# Altium footprint library PBL - Special.PcbLib: 21 footprints (part 2 of 2)
Each footprint in its own frame and in the unit in brackets; x right, y up, seen from the top. Pads: shape width x height; smd on the part's side, far side on the other; paste and mask are expansions set on the pad; w line width, h text height; cw(c..) or ccw(c..) is an arc to the next point about the centre after c.
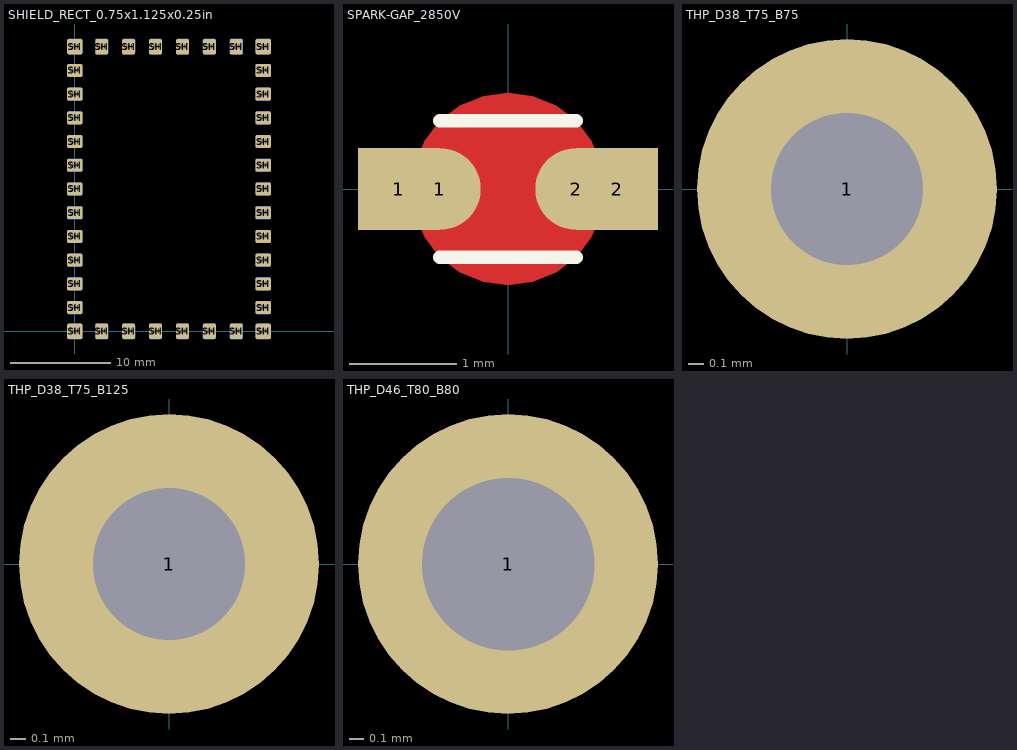
[diagram p1: the footprints below, top view; thin cyan lines are the x and y axes]

## SHIELD_RECT_0.75x1.125x0.25in [mil] "Fotofab standard RF shield, 1.125\"x0.75\", 0.25\" tall"
height 250
pads (114):
  round 40 hole 20: SH(0,0) SH(0,92.5) SH(0,185) SH(0,277.5) SH(0,370) SH(0,462.5) SH(0,555) SH(0,647.5) SH(0,740) SH(0,832.5) SH(0,925) SH(0,1017.5) SH(0,1110) SH(105,0) SH(105,1110) SH(210,0) SH(210,1110) SH(315,0) SH(315,1110) SH(420,0) SH(420,1110) SH(525,0) SH(525,1110) SH(630,0) SH(630,1110) SH(735,0) SH(735,92.5) SH(735,185) SH(735,277.5) SH(735,370) SH(735,462.5) SH(735,555) SH(735,647.5) SH(735,740) SH(735,832.5) SH(735,925) SH(735,1017.5) SH(735,1110)
  rrect25% 60x60 smd: SH(0,0) SH(0,1110) SH(735,0) SH(735,1110)
  rrect25% 60x60 smd far side: SH(0,0) SH(0,1110) SH(735,0) SH(735,1110)
  rrect25% 60x50 smd: SH(0,92.5) SH(0,185) SH(0,277.5) SH(0,370) SH(0,462.5) SH(0,555) SH(0,647.5) SH(0,740) SH(0,832.5) SH(0,925) SH(0,1017.5) SH(735,92.5) SH(735,185) SH(735,277.5) SH(735,370) SH(735,462.5) SH(735,555) SH(735,647.5) SH(735,740) SH(735,832.5) SH(735,925) SH(735,1017.5)
  rrect25% 60x50 smd far side: SH(0,92.5) SH(0,185) SH(0,277.5) SH(0,370) SH(0,462.5) SH(0,555) SH(0,647.5) SH(0,740) SH(0,832.5) SH(0,925) SH(0,1017.5) SH(735,92.5) SH(735,185) SH(735,277.5) SH(735,370) SH(735,462.5) SH(735,555) SH(735,647.5) SH(735,740) SH(735,832.5) SH(735,925) SH(735,1017.5)
  rrect25% 50x60 smd: SH(105,0) SH(105,1110) SH(210,0) SH(210,1110) SH(315,0) SH(315,1110) SH(420,0) SH(420,1110) SH(525,0) SH(525,1110) SH(630,0) SH(630,1110)
  rrect25% 50x60 smd far side: SH(105,0) SH(105,1110) SH(210,0) SH(210,1110) SH(315,0) SH(315,1110) SH(420,0) SH(420,1110) SH(525,0) SH(525,1110) SH(630,0) SH(630,1110)
3D body: height 250, standoff 0, extent -7.49,-7.49 742.51,1117.5

## SPARK-GAP_2850V [mil] "Spark gap, voltage approx 2850 per (3000 pd + 1350)"
pads (4):
  rrect1% 30x30 smd paste-20 mask-20: 1(-40,0) 2(40,0)
  round 30 smd paste-20 mask+5: 1(-25,0) 2(25,0)
Top Layer:
  pour cut-out: 0,35.3 9.14,34.1 17.65,30.57 24.96,24.96 30.57,17.65 34.1,9.14 35.3,0 34.1,-9.14 30.57,-17.65 24.96,-24.96 17.65,-30.57 9.14,-34.1 0,-35.3 -9.14,-34.1 -17.65,-30.57 -24.96,-24.96 -30.57,-17.65 -34.1,-9.14 -35.3,0 -34.1,9.14 -30.57,17.65 -24.96,24.96 -17.65,30.57 -9.14,34.1
Top Overlay:
  lines w5: -25,-25 25,-25 ; -25,25 25,25
Top Solder:
  rectangle: -25,-20 25,20

## THP_D38_T75_B75 [mil] "Thru-Hole Pad with 75mil top and 75mil bottom annular rings"
height 100
pads (1):
  round 75 hole 38: 1(0,0)

## THP_D38_T75_B125 [mil] "Thru-Hole Pad with 75mil top and 125mil bottom annular rings"
pads (1):
  round 75 / inner round 75 / far side round 125 hole 38: 1(0,0)

## THP_D46_T80_B80 [mil]
height 700.79
pads (1):
  round 80 hole 46: 1(0,0)